# Altium footprint library CommandBoard.PcbLib: 24 footprints (part 1 of 2)
Each footprint in its own frame and in the unit in brackets; x right, y up, seen from the top. Pads: shape width x height; smd on the part's side, far side on the other; paste and mask are expansions set on the pad; w line width, h text height; cw(c..) or ccw(c..) is an arc to the next point about the centre after c.
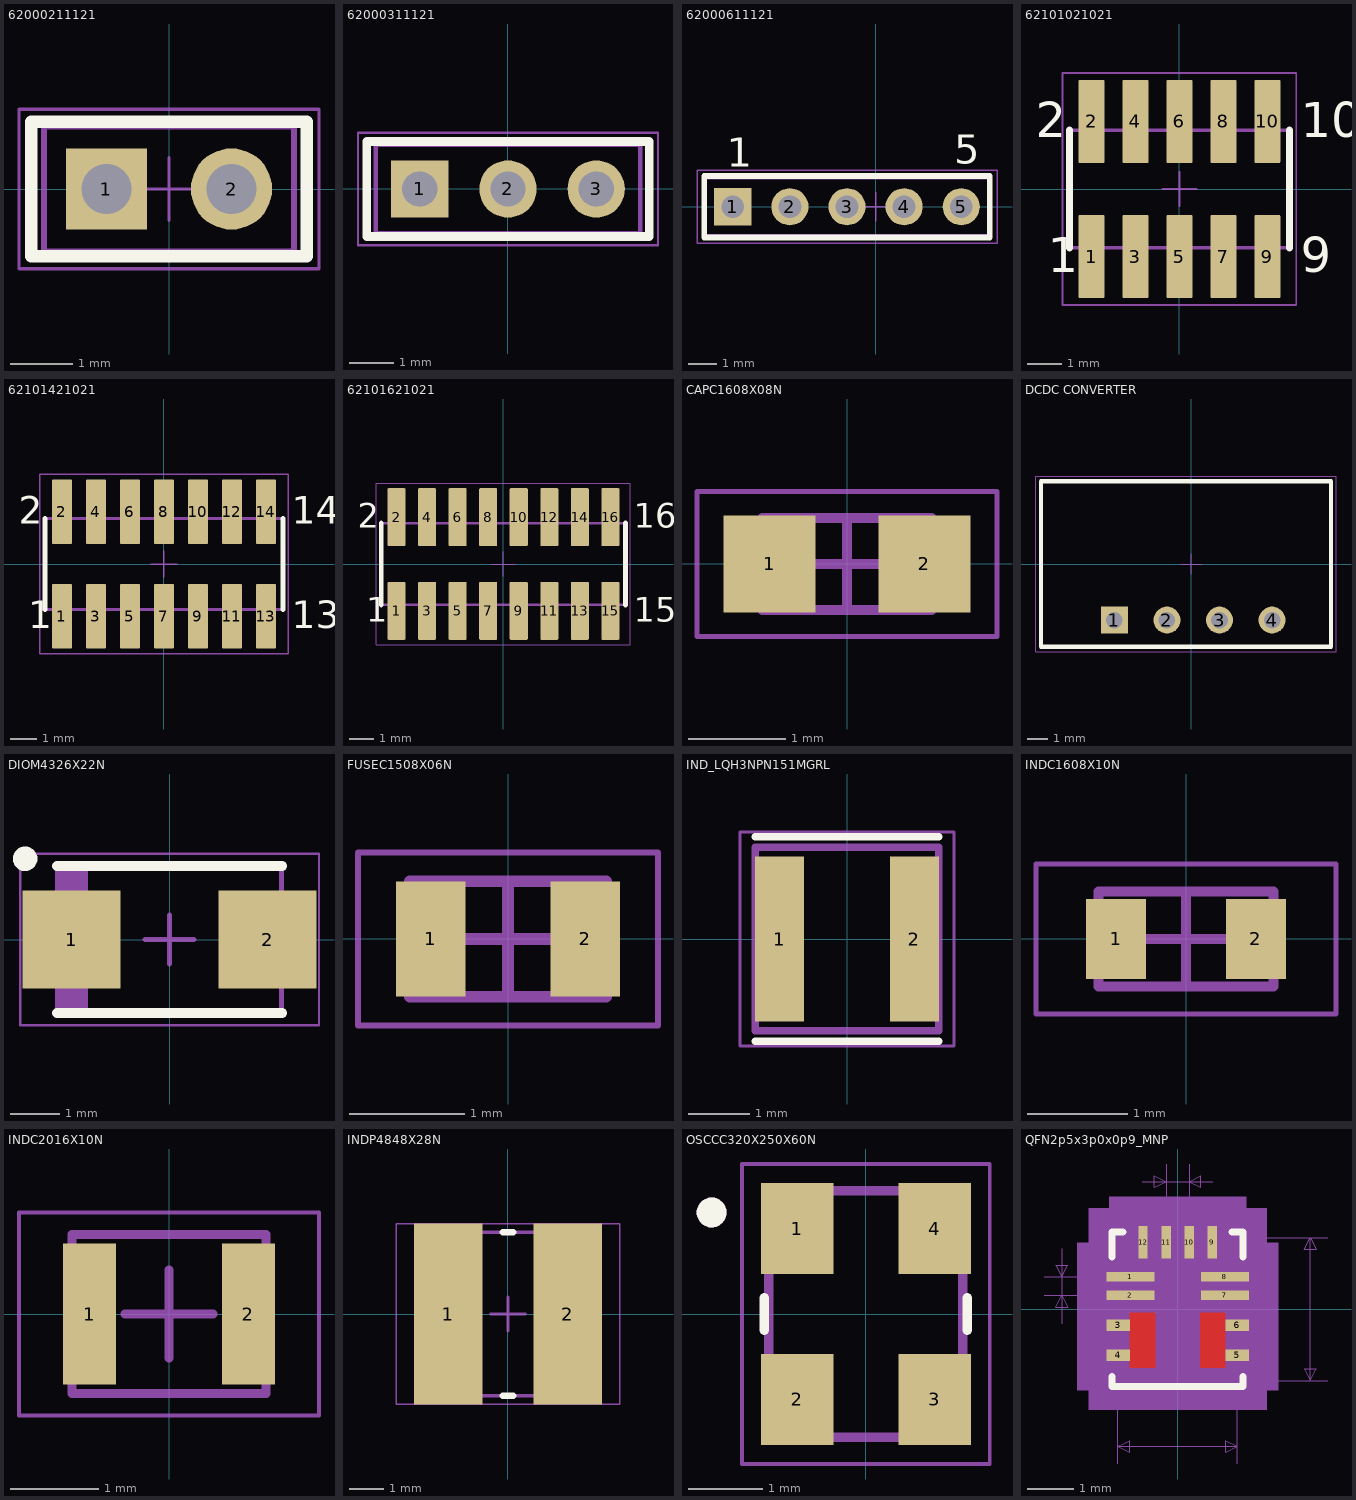
[diagram p0: the footprints below, top view; thin cyan lines are the x and y axes]

## 62000211121 [mm] "Pin Header, pitch 2.00 mm, THT, Vertical, single row, 2p"
height 6.35
pads (2):
  rect 1.3x1.3 hole 0.8: 1(-1,0)
  round 1.3 hole 0.8: 2(1,0)
Top Overlay:
  lines w0.2: -2.2,-1.075 2.2,-1.075 2.2,1.075 -2.2,1.075 -2.2,-1.075
Top 3D Body:
  lines w0.1: -2,-1 2,-1 2,1 -2,1 -2,-1
Top Courtyard (Mech15):
  lines w0.05: -0.5,0 0.5,0 ; 0,-0.5 0,0.5 ; -2.4,-1.275 2.4,-1.275 2.4,1.275 -2.4,1.275 -2.4,-1.275
3D body "62000211121.stp": height 6.05, standoff -2.65, extent -2,-1 2,1

## 62000311121 [mm] "Pin Header, pitch 2.00 mm, THT, Vertical, single row, 3p"
height 6.35
pads (3):
  rect 1.3x1.3 hole 0.8: 1(-2,0)
  round 1.3 hole 0.8: 2(0,0) 3(2,0)
Top Overlay:
  lines w0.2: -3.2,-1.075 3.2,-1.075 3.2,1.075 -3.2,1.075 -3.2,-1.075
Top 3D Body:
  lines w0.1: -3,-1 3,-1 3,1 -3,1 -3,-1
Top Courtyard (Mech15):
  lines w0.05: -0.5,0 0.5,0 ; 0,-0.5 0,0.5 ; -3.4,-1.275 3.4,-1.275 3.4,1.275 -3.4,1.275 -3.4,-1.275
3D body "62000311121.stp": height 6.05, standoff -2.65, extent -3,-1 3,1

## 62000611121 [mm] "Pin Header, pitch 2.00 mm, THT, Vertical, single row, 6p"
height 6.35
pads (5):
  rect 1.3x1.3 hole 0.8: 1(-5,0)
  round 1.3 hole 0.8: 2(-3,0) 3(-1,0) 4(1,0) 5(3,0)
Top Overlay:
  lines w0.2: -6,-1.075 4,-1.075 4,1.075 -6,1.075 -6,-1.075
  text "5" at 2.75,1.5 h1.02
  text "1" at -5.2,1.4 h1.02
Top 3D Body:
  lines w0.1: -6,-1 4,-1 4,1 -6,1 -6,-1
Top Courtyard (Mech15):
  lines w0.05: -0.5,0 0.5,0 ; 0,-0.5 0,0.5 ; -6.25,-1.275 4.25,-1.275 4.25,1.275 -6.25,1.275 -6.25,-1.275
3D body "62000611121-5pin.stp": height 6, standoff -2.7, extent -5.975,-1 4,1

## 62101021021 [mm] "Pin Header, pitch 1.27 mm, SMD, Vertical, dual row, 10p"
height 6.55
pads (10):
  rrect10% 0.75x2.4 smd: 1(-2.54,-1.95) 2(-2.54,1.95) 3(-1.27,-1.95) 4(-1.27,1.95) 5(0,-1.95) 6(0,1.95) 7(1.27,-1.95) 8(1.27,1.95) 9(2.54,-1.95) 10(2.54,1.95)
Top Overlay:
  lines w0.2: -3.175,-1.7 -3.175,1.7 ; 3.175,-1.7 3.175,1.7
  text "10" at 3.505,1.5 h1.02
  text "9" at 3.505,-2.4 h1.02
  text "1" at -3.805,-2.4 h1.02
  text "2" at -4.144,1.5 h1.02
Top 3D Body:
  lines w0.1: -2.74,-1.7 -2.74,-2.5 -2.34,-2.5 -2.34,-1.7 ; -2.74,1.7 -2.74,2.5 -2.34,2.5 -2.34,1.7 ; -1.47,-1.7 -1.47,-2.5 -1.07,-2.5 -1.07,-1.7 ; -1.47,1.7 -1.47,2.5 -1.07,2.5 -1.07,1.7 ; -0.2,-1.7 -0.2,-2.5 0.2,-2.5 0.2,-1.7 ; -0.2,1.7 -0.2,2.5 0.2,2.5 0.2,1.7 ; 1.07,-1.7 1.07,-2.5 1.47,-2.5 1.47,-1.7 ; 1.07,1.7 1.07,2.5 1.47,2.5 1.47,1.7 ; 2.34,-1.7 2.34,-2.5 2.74,-2.5 2.74,-1.7 ; 2.34,1.7 2.34,2.5 2.74,2.5 2.74,1.7 ; -3.175,-1.7 -3.175,1.7 3.175,1.7 3.175,-1.7 -3.175,-1.7
Top Courtyard (Mech15):
  lines w0.05: -0.5,0 0.5,0 ; 0,-0.5 0,0.5 ; -3.375,-3.35 -3.375,3.35 3.375,3.35 3.375,-3.35 -3.375,-3.35
3D body "62101021021.stp": height 5.9, standoff -0.01, extent -3.175,-2.5 3.175,2.5

## 62101421021 [mm] "Pin Header, pitch 1.27 mm, SMD, Vertical, dual row, 14p"
height 6.55
pads (14):
  rrect10% 0.75x2.4 smd: 1(-3.81,-1.95) 2(-3.81,1.95) 3(-2.54,-1.95) 4(-2.54,1.95) 5(-1.27,-1.95) 6(-1.27,1.95) 7(0,-1.95) 8(0,1.95) 9(1.27,-1.95) 10(1.27,1.95) 11(2.54,-1.95) 12(2.54,1.95) 13(3.81,-1.95) 14(3.81,1.95)
Top Overlay:
  lines w0.2: -4.445,-1.7 -4.445,1.7 ; 4.445,-1.7 4.445,1.7
  text "1" at -5.075,-2.4 h1.02
  text "2" at -5.414,1.5 h1.02
  text "13" at 4.775,-2.4 h1.02
  text "14" at 4.775,1.5 h1.02
Top 3D Body:
  lines w0.1: -4.01,-1.7 -4.01,-2.5 -3.61,-2.5 -3.61,-1.7 ; -4.01,1.7 -4.01,2.5 -3.61,2.5 -3.61,1.7 ; -2.74,-1.7 -2.74,-2.5 -2.34,-2.5 -2.34,-1.7 ; -2.74,1.7 -2.74,2.5 -2.34,2.5 -2.34,1.7 ; -1.47,-1.7 -1.47,-2.5 -1.07,-2.5 -1.07,-1.7 ; -1.47,1.7 -1.47,2.5 -1.07,2.5 -1.07,1.7 ; -0.2,-1.7 -0.2,-2.5 0.2,-2.5 0.2,-1.7 ; -0.2,1.7 -0.2,2.5 0.2,2.5 0.2,1.7 ; 1.07,-1.7 1.07,-2.5 1.47,-2.5 1.47,-1.7 ; 1.07,1.7 1.07,2.5 1.47,2.5 1.47,1.7 ; 2.34,-1.7 2.34,-2.5 2.74,-2.5 2.74,-1.7 ; 2.34,1.7 2.34,2.5 2.74,2.5 2.74,1.7 ; 3.61,-1.7 3.61,-2.5 4.01,-2.5 4.01,-1.7 ; 3.61,1.7 3.61,2.5 4.01,2.5 4.01,1.7 ; -4.445,-1.7 -4.445,1.7 4.445,1.7 4.445,-1.7 -4.445,-1.7
Top Courtyard (Mech15):
  lines w0.05: -0.5,0 0.5,0 ; 0,-0.5 0,0.5 ; -4.645,-3.35 -4.645,3.35 4.645,3.35 4.645,-3.35 -4.645,-3.35
3D body "62101421021.stp": height 5.9, standoff -0.01, extent -4.445,-2.5 4.445,2.5

## 62101621021 [mm] "Pin Header, pitch 1.27 mm, SMD, Vertical, dual row, 16p"
height 6.55
pads (16):
  rrect10% 0.75x2.4 smd: 1(-4.445,-1.95) 2(-4.445,1.95) 3(-3.175,-1.95) 4(-3.175,1.95) 5(-1.905,-1.95) 6(-1.905,1.95) 7(-0.635,-1.95) 8(-0.635,1.95) 9(0.635,-1.95) 10(0.635,1.95) 11(1.905,-1.95) 12(1.905,1.95) 13(3.175,-1.95) 14(3.175,1.95) 15(4.445,-1.95) 16(4.445,1.95)
Top Overlay:
  lines w0.2: -5.08,-1.7 -5.08,1.7 ; 5.08,-1.7 5.08,1.7
  text "1" at -5.71,-2.4 h1.02
  text "2" at -6.049,1.5 h1.02
  text "15" at 5.41,-2.4 h1.02
  text "16" at 5.41,1.5 h1.02
Top 3D Body:
  lines w0.1: -4.645,-1.7 -4.645,-2.5 -4.245,-2.5 -4.245,-1.7 ; -4.645,1.7 -4.645,2.5 -4.245,2.5 -4.245,1.7 ; -3.375,-1.7 -3.375,-2.5 -2.975,-2.5 -2.975,-1.7 ; -3.375,1.7 -3.375,2.5 -2.975,2.5 -2.975,1.7 ; -2.105,-1.7 -2.105,-2.5 -1.705,-2.5 -1.705,-1.7 ; -2.105,1.7 -2.105,2.5 -1.705,2.5 -1.705,1.7 ; -0.835,-1.7 -0.835,-2.5 -0.435,-2.5 -0.435,-1.7 ; -0.835,1.7 -0.835,2.5 -0.435,2.5 -0.435,1.7 ; 0.435,-1.7 0.435,-2.5 0.835,-2.5 0.835,-1.7 ; 0.435,1.7 0.435,2.5 0.835,2.5 0.835,1.7 ; 1.705,-1.7 1.705,-2.5 2.105,-2.5 2.105,-1.7 ; 1.705,1.7 1.705,2.5 2.105,2.5 2.105,1.7 ; 2.975,-1.7 2.975,-2.5 3.375,-2.5 3.375,-1.7 ; 2.975,1.7 2.975,2.5 3.375,2.5 3.375,1.7 ; 4.245,-1.7 4.245,-2.5 4.645,-2.5 4.645,-1.7 ; 4.245,1.7 4.245,2.5 4.645,2.5 4.645,1.7 ; -5.08,-1.7 -5.08,1.7 5.08,1.7 5.08,-1.7 -5.08,-1.7
Top Courtyard (Mech15):
  lines w0.05: -0.5,0 0.5,0 ; 0,-0.5 0,0.5 ; -5.28,-3.35 -5.28,3.35 5.28,3.35 5.28,-3.35 -5.28,-3.35
3D body "62101621021.stp": height 5.9, standoff -0.01, extent -5.08,-2.5 5.08,2.5

## CAPC1608X08N [mm] "Chip Capacitor, 2-Leads, Body 1.60x0.80mm, IPC Medium Density"
height 0.8
pads (2):
  rect 0.95x1 smd: 1(-0.8,0) 2(0.8,0)
Top Assembly:
  lines w0.1: -0.875,-0.475 0.875,-0.475 0.875,0.475 -0.875,0.475 -0.875,-0.475
  text "'.Designator'" at -0.875,-0.475 h1.5
Top Courtyard (Mech15):
  lines w0.05: -1.55,-0.75 1.55,-0.75 1.55,0.75 -1.55,0.75 -1.55,-0.75
  lines w0.1: -0.475,0 0.475,0 ; 0,-0.475 0,0.475
3D body "CAPC1608X08N.step": height 0.8, standoff 0, extent -0.875,-0.475 0.875,0.475

## DCDC CONVERTER [mm]
height 4.45
pads (4):
  rect 1.3x1.3 hole 0.8: 1(-3.71,-2.71)
  round 1.3 hole 0.8: 2(-1.17,-2.71) 3(1.37,-2.71) 4(3.91,-2.71)
Top Overlay:
  lines w0.2: -7.25,-4 6.75,-4 6.75,4 -7.25,4 -7.25,-4
Top 3D Body:
  lines w0.1: -7.25,-4 6.75,-4 6.75,4 -7.25,4 -7.25,-4
Top Courtyard (Mech15):
  lines w0.05: -0.5,0 0.5,0 ; 0,-0.5 0,0.5 ; -7.5,-4.25 7,-4.25 7,4.25 -7.5,4.25 -7.5,-4.25
3D body "mps_dcdc_mee3s_sc_a.step": height 10.05, standoff -4.05, extent -7.25,-4.02 6.75,4

## DIOM4326X22N [mm] "Molded Diode, 2-Leads, Body 4.31x2.61mm, IPC Medium Density"
height 2.2
pads (2):
  rect 2x2 smd: 1(-2,0) 2(2,0)
Top Overlay:
  circle w0.25: c-2.95,1.65 r0.125
  lines w0.2: -2.3,-1.5 2.3,-1.5 ; -2.3,1.5 2.3,1.5
Top Assembly:
  rectangle: -2.285,-1.46 -1.67,1.46
  lines w0.1: -2.285,-1.46 -2.285,1.46 2.285,1.46 2.285,-1.46 -2.285,-1.46
Top Courtyard (Mech15):
  lines w0.05: -3.05,-1.75 -3.05,1.75 3.05,1.75 3.05,-1.75 -3.05,-1.75
  lines w0.1: -0.5,0 0.5,0 ; 0,-0.5 0,0.5
3D body "DIOM4326X22N.step": height 2.2, standoff 0, extent -2.505,-1.46 2.505,1.46

## FUSEC1508X06N [mm] "Chip Resistor, 2-Leads, Body 1.55x0.85mm, IPC Medium Density"
height 0.58
pads (2):
  rect 0.6x1 smd: 1(-0.67,0) 2(0.67,0)
Top Assembly:
  lines w0.1: -0.85,-0.5 -0.85,0.5 0.85,0.5 0.85,-0.5 -0.85,-0.5
Top Courtyard (Mech15):
  lines w0.05: -1.3,-0.75 -1.3,0.75 1.3,0.75 1.3,-0.75 -1.3,-0.75
  lines w0.1: -0.5,0 0.5,0 ; 0,-0.5 0,0.5
3D body "FUSEC1508X06N.step": height 0.58, standoff 0, extent -0.85,-0.5 0.85,0.5

## IND_LQH3NPN151MGRL [mm]
pads (2):
  rect 0.8x2.7 smd: 1(-1.1,0) 2(1.1,0)
Top Overlay:
  lines w0.127: -1.5,-1.67 1.5,-1.67 ; -1.5,1.67 1.5,1.67
Top Assembly:
  text "'.Designator'" at -1,-0.5 h1.5
Top 3D Body:
  lines w0.127: -1.5,-1.5 -1.5,1.5 1.5,1.5 1.5,-1.5 -1.5,-1.5
Top Courtyard (Mech15):
  lines w0.05: -1.75,-1.75 -1.75,1.75 1.75,1.75 1.75,-1.75 -1.75,-1.75
3D body "LQH3NPN151MGRL.STEP": height 1, standoff 0, extent -1.5,-1.5 1.5,1.5

## INDC1608X10N [mm] "Chip Inductor, 2-Leads, Body 1.60x0.80mm, IPC Medium Density"
height 0.95
pads (2):
  rect 0.6x0.8 smd: 1(-0.7,0) 2(0.7,0)
Top Assembly:
  lines w0.1: -0.875,-0.475 -0.875,0.475 0.875,0.475 0.875,-0.475 -0.875,-0.475
  text "'.Designator'" at -1,-0.5 h1.5
Top Courtyard (Mech15):
  lines w0.05: -1.5,-0.75 -1.5,0.75 1.5,0.75 1.5,-0.75 -1.5,-0.75
  lines w0.1: -0.475,0 0.475,0 ; 0,-0.475 0,0.475
3D body "INDC1608X10N.step": height 0.95, standoff 0, extent -0.875,-0.475 0.875,0.475

## INDC2016X10N [mm] "Chip Inductor, 2-Leads, Body 2.00x1.60mm, IPC Medium Density"
height 1
pads (2):
  rect 0.6x1.6 smd: 1(-0.9,0) 2(0.9,0)
Top Assembly:
  lines w0.1: -1.1,-0.9 1.1,-0.9 1.1,0.9 -1.1,0.9 -1.1,-0.9
Top Courtyard (Mech15):
  lines w0.05: -1.7,-1.15 1.7,-1.15 1.7,1.15 -1.7,1.15 -1.7,-1.15
  lines w0.1: -0.5,0 0.5,0 ; 0,-0.5 0,0.5
3D body "INDC2016X10N.step": height 1, standoff 0, extent -1.1,-0.9 1.1,0.9

## INDP4848X28N [mm] "Precision Wire Wound Inductor, 2-Leads, Body 4.80x4.80mm, IPC Medium Density"
height 2.8
pads (2):
  rect 2x5.3 smd: 1(-1.75,0) 2(1.75,0)
Top Overlay:
  lines w0.2: -0.15,-2.4 0.15,-2.4 ; -0.15,2.4 0.15,2.4
Top Assembly:
  lines w0.1: -2.4,-2.4 2.4,-2.4 2.4,2.4 -2.4,2.4 -2.4,-2.4
  text "'.Designator'" at -1,-0.5 h1.5
Top Courtyard (Mech15):
  lines w0.05: -3.275,-2.65 3.275,-2.65 3.275,2.65 -3.275,2.65 -3.275,-2.65
  lines w0.1: -0.5,0 0.5,0 ; 0,-0.5 0,0.5
3D body "INDP4848X28N.step": height 2.9, standoff 0, extent -2.5,-2.4 2.5,2.4

## OSCCC320X250X60N [mm]
pads (4):
  rect 0.97x1.22 smd: 1(-0.92,1.145) 2(-0.92,-1.145) 3(0.92,-1.145) 4(0.92,1.145)
Top Overlay:
  circle w0.2: c-2.068,1.361 r0.1
  lines w0.127: -1.36,-0.22 -1.36,0.22 ; 1.36,-0.22 1.36,0.22
Top 3D Body:
  circle w0.2: c-2.068,1.361 r0.1
  lines w0.127: -1.3,-1.65 1.3,-1.65 1.3,1.65 -1.3,1.65 -1.3,-1.65
Top Courtyard (Mech15):
  lines w0.05: -1.66,-2.01 1.66,-2.01 1.66,2.01 -1.66,2.01 -1.66,-2.01

## QFN2p5x3p0x0p9_MNP [mil]
pads (12):
  rect 41x8 smd paste+0 mask+0: 1(-40.35,27.57) 2(-40.35,11.81) 7(40.35,11.81) 8(40.35,27.57)
  rect 20x10 smd paste+0 mask+0: 3(-50.87,-13.78) 4(-50.87,-39.38) 5(50.87,-39.38) 6(50.87,-13.78)
  rect 8x28 smd paste+0 mask+0: 9(29.54,57.09) 10(9.85,57.09) 11(-9.85,57.09) 12(-29.54,57.09)
Top Layer:
  region: 19.21,-50.2 19.21,-2.96 40.87,-2.96 40.87,-50.2
  region: -40.87,-50.2 -40.87,-2.96 -19.21,-2.96 -19.21,-50.2
Top Overlay:
  lines w6: -56,-57.48 -56,-66 56,-66 56,-57.48 ; -56,44.67 -56,66 -46.63,66 ; 46.63,66 56,66 56,44.67
Top Paste:
  region: 19.21,-50.2 19.21,-2.96 40.87,-2.96 40.87,-50.2
  region: -40.87,-50.2 -40.87,-2.96 -19.21,-2.96 -19.21,-50.2
Top Solder:
  region: 19.21,-50.2 19.21,-2.96 40.87,-2.96 40.87,-50.2
  region: -40.87,-50.2 -40.87,-2.96 -19.21,-2.96 -19.21,-50.2
Mechanical 5:
  region: 58.53,96.09 -58.53,96.09 -58.53,86 -76,86 -76,56.57 -85.85,56.57 -85.85,16.22 -85.87,16.22 -85.87,-69.38 -76,-69.38 -76,-86 76,-86 76,-69.38 85.87,-69.38 85.87,-17.19 85.85,-17.19 85.85,56.57 76,56.57 76,86 58.53,86
Mechanical 7:
  lines w1: -114.03,11.81 -40.35,11.81 ; -114.03,27.57 -40.35,27.57 ; -99.03,-12.43 -99.03,27.57 ; -99.03,51.81 -99.03,11.81 ; -51,-132.22 -51,-61 ; -30.16,109.01 9.84,109.01 ; -9.85,57.09 -9.85,124.01 ; 9.85,57.09 9.84,124.01 ; 30.15,109.01 -9.85,109.01 ; 51,-132.22 51,-61 128.3,-61 ; 51,61 128.3,61 ; -99.03,11.81 -104.03,1.81 -94.03,1.81 -99.03,11.81 ; -99.03,27.57 -94.03,37.57 -104.03,37.57 -99.03,27.57 ; -51,-117.22 -41,-122.22 -41,-112.22 -51,-117.22 ; -51,-117.22 51,-117.22 ; -9.85,109.01 -19.84,114.01 -19.84,104.01 -9.85,109.01 ; 9.84,109.01 19.84,104.01 19.84,114.01 9.84,109.01 ; 51,-117.22 41,-112.22 41,-122.22 51,-117.22 ; 113.3,-61 118.3,-51 108.3,-51 113.3,-61 ; 113.3,-61 113.3,61 ; 113.3,61 108.3,51 118.3,51 113.3,61
  text "0.122in/3.099mm" at 133.3,-12.5 h25
  text "0.102in/2.591mm" at -93.75,-162.22 h25
  text "0.02in/0.5mm" at -75,129.01 h25
  text "0.016in/0.4mm" at -281.53,7.19 h25
  text "Alt 2 Padstyle: OX90Y60D30P" at -337.5,-571.09 h50
  text "Alt 1 Padstyle: RX20Y10D0T" at -325,-511.09 h50
  text "Default Padstyle: RX28Y8D0T" at -337.5,-331.09 h50
  text "Pin 1 Padstyle: RX41Y8D0T" at -312.5,-271.09 h50
Top Assembly:
  text "'.Designator'" at -39.37,-19.68 h59.06
Top 3D Body:
  lines w1: -51,11 -1,61 ; -51,-61 -51,61 51,61 51,-61 -51,-61
Top Courtyard (Mech15):
  region: 43.53,81.09 -43.53,81.09 -43.53,71 -61,71 -61,41.57 -70.85,41.57 -70.85,1.22 -70.87,1.22 -70.87,-54.38 -61,-54.38 -61,-71 61,-71 61,-54.38 70.87,-54.38 70.87,-2.19 70.85,-2.19 70.85,41.57 61,41.57 61,71 43.53,71
  lines w6: -70.87,1.22 -70.87,-54.38 -61,-54.38 -61,-71 61,-71 61,-54.38 70.87,-54.38 70.87,-2.19 ; -70.87,1.22 -70.85,1.22 ; -70.85,1.22 -70.85,41.57 -61,41.57 -61,71 -43.53,71 -43.53,81.09 43.53,81.09 43.53,71 61,71 61,41.57 70.85,41.57 70.85,-2.19 ; 70.85,-2.19 70.87,-2.19
3D body: height 10, standoff 0, extent 0,0 10,10